# Altium integrated library solomon-systech.IntLib: 2 symbols
Pins are listed as number, name and electrical type; pins without a type are passive.

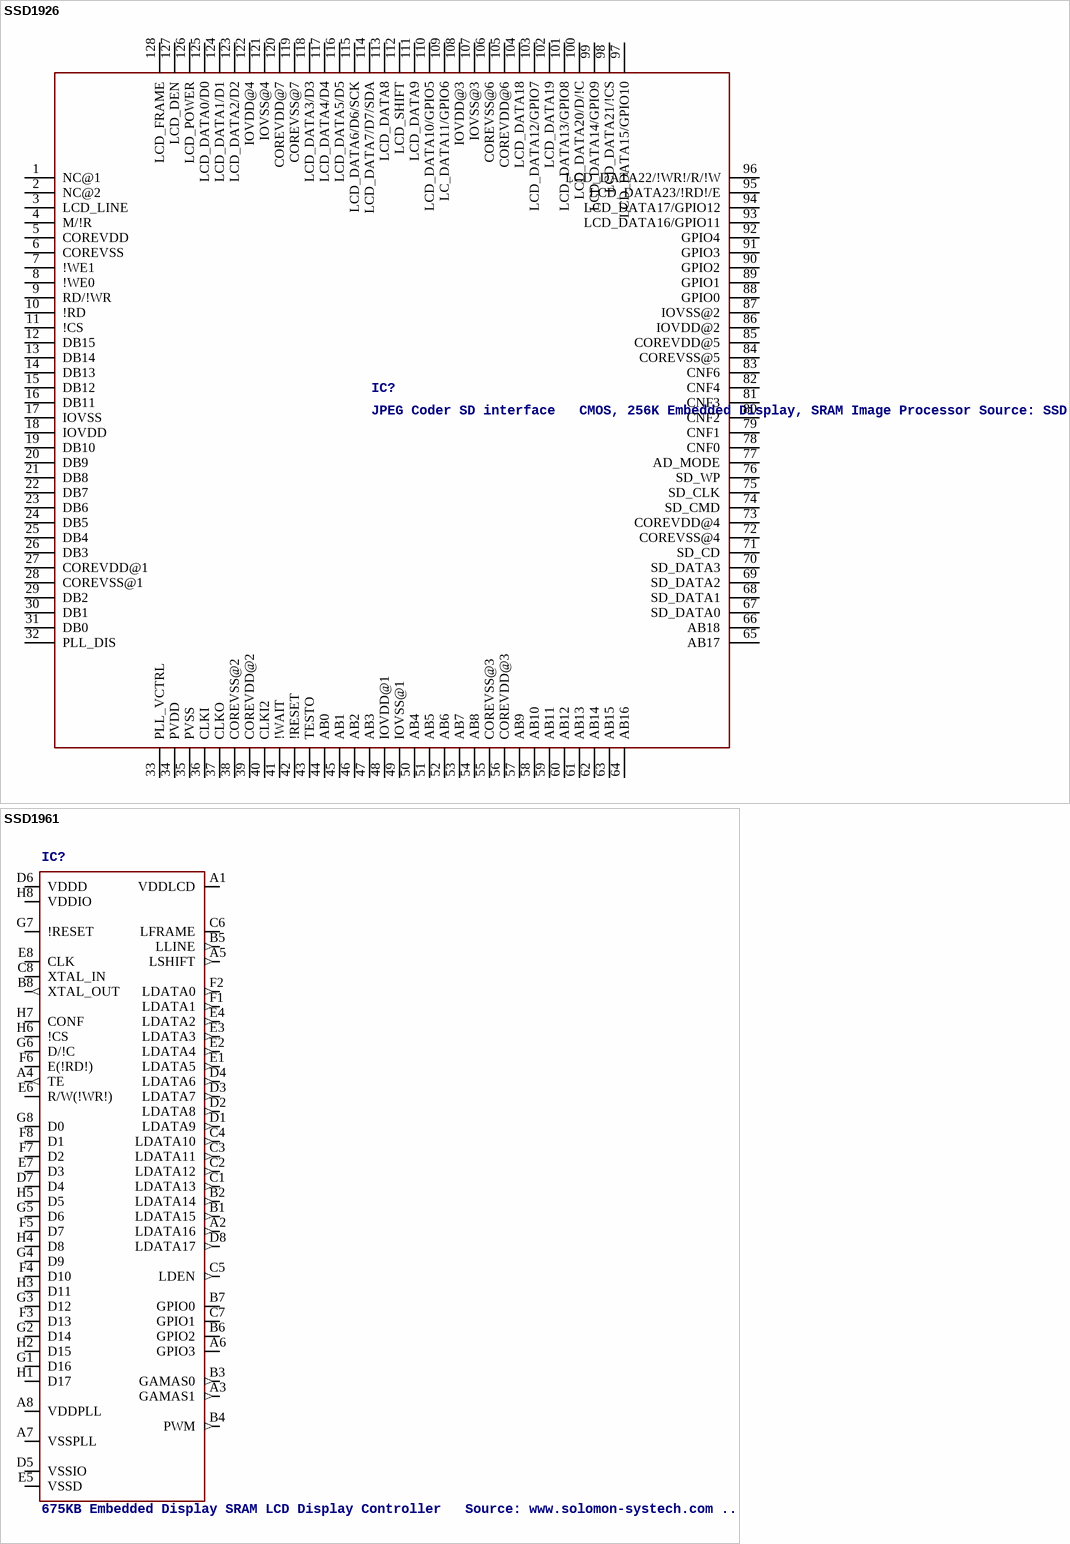
[diagram p0: symbols SSD1926 to SSD1961]

## SSD1926
designator IC?, comment JPEG Coder SD interface   CMOS, 256K Embedded Display, SRAM Image Processor Source: SSD1926_1.2.pdf
OC_FARNELL: unknown; OC_NEWARK: unknown
footprint SQFP-S-14X14-128
pins: 1 NC@1, 2 NC@2, 3 LCD_LINE, 4 M/!R, 5 COREVDD (power), 6 COREVSS (power), 7 !WE1, 8 !WE0, 9 RD/!WR, 10 !RD, 11 !CS, 12 DB15, 13 DB14, 14 DB13, 15 DB12, 16 DB11, 17 IOVSS (power), 18 IOVDD (power), 19 DB10, 20 DB9, 21 DB8, 22 DB7, 23 DB6, 24 DB5, 25 DB4, 26 DB3, 27 COREVDD@1 (power), 28 COREVSS@1 (power), 29 DB2, 30 DB1, 31 DB0, 32 PLL_DIS, 33 PLL_VCTRL, 34 PVDD (power), 35 PVSS (power), 36 CLKI, 37 CLKO, 38 COREVSS@2 (power), 39 COREVDD@2 (power), 40 CLKI2, 41 !WAIT, 42 !RESET, 43 TESTO, 44 AB0, 45 AB1, 46 AB2, 47 AB3, 48 IOVDD@1 (power), 49 IOVSS@1 (power), 50 AB4, 51 AB5, 52 AB6, 53 AB7, 54 AB8, 55 COREVSS@3 (power), 56 COREVDD@3 (power), 57 AB9, 58 AB10, 59 AB11, 60 AB12, 61 AB13, 62 AB14, 63 AB15, 64 AB16, 65 AB17, 66 AB18, 67 SD_DATA0, 68 SD_DATA1, 69 SD_DATA2, 70 SD_DATA3, 71 SD_CD, 72 COREVSS@4 (power), 73 COREVDD@4 (power), 74 SD_CMD, 75 SD_CLK, 76 SD_WP, 77 AD_MODE, 78 CNF0, 79 CNF1, 80 CNF2, 81 CNF3, 82 CNF4, 83 CNF6, 84 COREVSS@5 (power), 85 COREVDD@5 (power), 86 IOVDD@2, 87 IOVSS@2, 88 GPIO0, 89 GPIO1, 90 GPIO2, 91 GPIO3, 92 GPIO4, 93 LCD_DATA16/GPIO11, 94 LCD_DATA17/GPIO12, 95 LCD_DATA23/!RD!/E, 96 LCD_DATA22/!WR!/R/!W, 97 LCD_DATA15/GPIO10, 98 LCD_DATA21/!CS, 99 LCD_DATA14/GPIO9, 100 LCD_DATA20/D/!C, 101 LCD_DATA13/GPIO8, 102 LCD_DATA19, 103 LCD_DATA12/GPIO7, 104 LCD_DATA18, 105 COREVDD@6 (power), 106 COREVSS@6 (power), 107 IOVSS@3 (power), 108 IOVDD@3 (power), 109 LC_DATA11/GPIO6, 110 LCD_DATA10/GPIO5, 111 LCD_DATA9, 112 LCD_SHIFT, 113 LCD_DATA8, 114 LCD_DATA7/D7/SDA, 115 LCD_DATA6/D6/SCK, 116 LCD_DATA5/D5, 117 LCD_DATA4/D4, 118 LCD_DATA3/D3, 119 COREVSS@7 (power), 120 COREVDD@7 (power), 121 IOVSS@4 (power), 122 IOVDD@4 (power), 123 LCD_DATA2/D2, 124 LCD_DATA1/D1, 125 LCD_DATA0/D0, 126 LCD_POWER, 127 LCD_DEN, 128 LCD_FRAME

## SSD1961
designator IC?, comment 675KB Embedded Display SRAM LCD Display Controller   Source: www.solomon-systech.com .. SSD1961_0.10.pdf
OC_FARNELL: unknown; OC_NEWARK: unknown
footprint TFBGA-64
pins: A1 VDDLCD (power), A2 LDATA16 (out), A3 GAMAS1 (out), A4 TE (out), A5 LSHIFT (out), A6 GPIO3, A7 VSSPLL (power), A8 VDDPLL (power), B1 LDATA15 (out), B2 LDATA14 (out), B3 GAMAS0 (out), B4 PWM (out), B5 LLINE (out), B6 GPIO2, B7 GPIO0, B8 XTAL_OUT (out), C1 LDATA13 (out), C2 LDATA12 (out), C3 LDATA11 (out), C4 LDATA10 (out), C5 LDEN (out), C6 LFRAME, C7 GPIO1, C8 XTAL_IN, D1 LDATA9 (out), D2 LDATA8 (out), D3 LDATA7 (out), D4 LDATA6 (out), D5 VSSIO (power), D6 VDDD (power), D7 D4, D8 LDATA17 (out), E1 LDATA5 (out), E2 LDATA4 (out), E3 LDATA3 (out), E4 LDATA2 (out), E5 VSSD (power), E6 R/W(!WR!), E7 D3, E8 CLK, F1 LDATA1 (out), F2 LDATA0 (out), F3 D13, F4 D10, F5 D7, F6 E(!RD!), F7 D2, F8 D1, G1 D16, G2 D14, G3 D12, G4 D9, G5 D6, G6 D/!C, G7 !RESET, G8 D0, H1 D17, H2 D15, H3 D11, H4 D8, H5 D5, H6 !CS, H7 CONF, H8 VDDIO (power)